# Altium footprint library PCB - SWITCH - PANASONIC EVQQ2.PcbLib: 1 footprints
Each footprint in its own frame and in the unit in brackets; x right, y up, seen from the top. Pads: shape width x height; smd on the part's side, far side on the other; paste and mask are expansions set on the pad; w line width, h text height; cw(c..) or ccw(c..) is an arc to the next point about the centre after c.
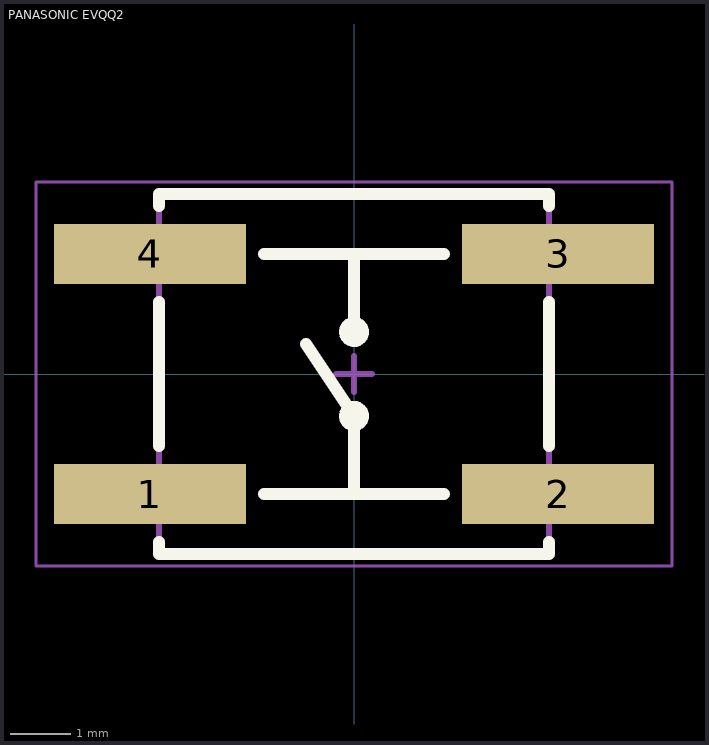
[diagram p0: the footprint, top view; thin cyan lines are the x and y axes]

## PANASONIC EVQQ2 [mm] "Switch. 4-leads, body 6.5x6mm, Panasonic EVQ-Q2Y03W"
height 3.1
pads (4):
  rect 3.2x1 smd mask+0.1: 1(-3.4,-2) 2(3.4,-2) 3(3.4,2) 4(-3.4,2)
Top Overlay:
  circle w0.2: c0,-0.7 r0.15
  circle w0.2: c0,0.7 r0.15
  lines w0.2: -3.25,-2.8 -3.25,-3 3.25,-3 3.25,-2.8 ; -3.25,-1.2 -3.25,1.2 ; -3.25,2.8 -3.25,3 3.25,3 3.25,2.8 ; -1.5,-2 1.5,-2 ; -1.5,2 1.5,2 ; -0.8,0.5 0,-0.7 0,-2 ; 0,0.7 0,2 ; 3.25,-1.2 3.25,1.2
Mechanical 13:
  lines w0.1: -3.25,-3 3.25,-3 3.25,3 -3.25,3 -3.25,-3
Mechanical 15 (Mech15):
  lines w0.05: -5.3,-3.2 5.3,-3.2 5.3,3.2 -5.3,3.2 -5.3,-3.2
  lines w0.1: -0.3,0 0.3,0 ; 0,-0.3 0,0.3
3D body "Panasonic - EVQQ2.step": height 3.1, standoff 0, extent -3.4,-3 3.4,3